# EAGLE library part PCA9698DGG (library i2c-expander-40)
I2C 40 I/O expander
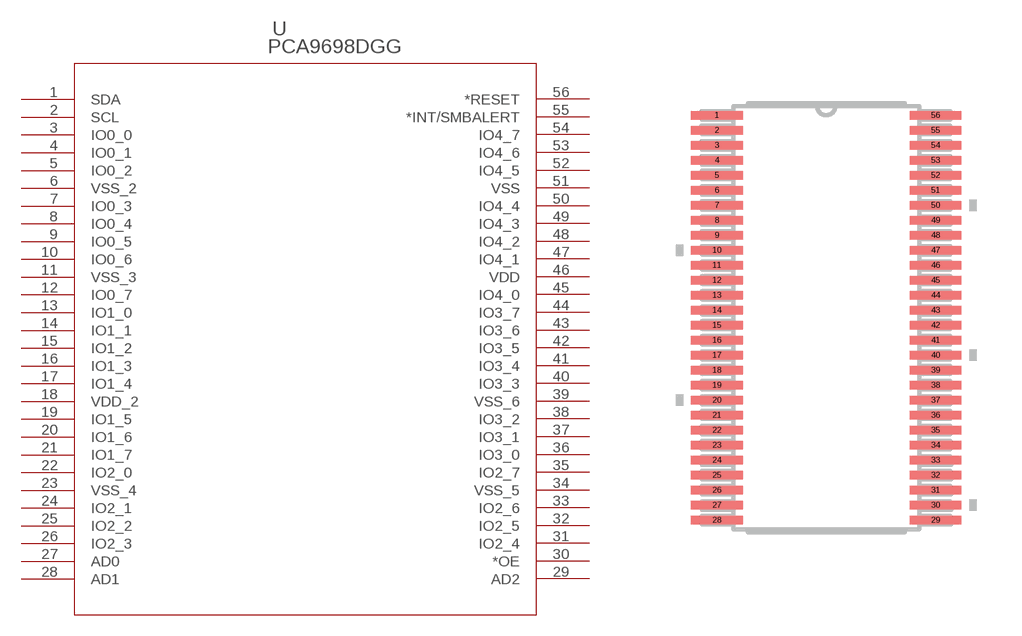
[diagram p2: symbol with the pads of SOT364-1; footprint SOT364-1]

Designator prefix U

## PCA9698DGG (COPYRIGHT: Copyright (C) 2015 Accelerated Designs. All rights reserved; MANUFACTURER_PART_NUMBER: PCA9698DGG; VENDOR: NXP)  [SOT364-1]
1  SDA  pas
2  SCL  pas
3  IO0_0  pas
4  IO0_1  pas
5  IO0_2  pas
6  VSS_2  pas
7  IO0_3  pas
8  IO0_4  pas
9  IO0_5  pas
10  IO0_6  pas
11  VSS_3  pas
12  IO0_7  pas
13  IO1_0  pas
14  IO1_1  pas
15  IO1_2  pas
16  IO1_3  pas
17  IO1_4  pas
18  VDD_2  pas
19  IO1_5  pas
20  IO1_6  pas
21  IO1_7  pas
22  IO2_0  pas
23  VSS_4  pas
24  IO2_1  pas
25  IO2_2  pas
26  IO2_3  pas
27  AD0  pas
28  AD1  pas
29  AD2  pas
30  *OE  pas
31  IO2_4  pas
32  IO2_5  pas
33  IO2_6  pas
34  VSS_5  pas
35  IO2_7  pas
36  IO3_0  pas
37  IO3_1  pas
38  IO3_2  pas
39  VSS_6  pas
40  IO3_3  pas
41  IO3_4  pas
42  IO3_5  pas
43  IO3_6  pas
44  IO3_7  pas
45  IO4_0  pas
46  VDD  pas
47  IO4_1  pas
48  IO4_2  pas
49  IO4_3  pas
50  IO4_4  pas
51  VSS  pas
52  IO4_5  pas
53  IO4_6  pas
54  IO4_7  pas
55  *INT/SMBALERT  pas
56  *RESET  pas

## Footprint SOT364-1 (pad centres in mm)
smd 1.727 x 0.279: 1 -3.645,6.75; 2 -3.645,6.25; 3 -3.645,5.75; 4 -3.645,5.25; 5 -3.645,4.75; 6 -3.645,4.25; 7 -3.645,3.75; 8 -3.645,3.25; 9 -3.645,2.75; 10 -3.645,2.25; 11 -3.645,1.75; 12 -3.645,1.25; 13 -3.645,0.75; 14 -3.645,0.25; 15 -3.645,-0.25; 16 -3.645,-0.75; 17 -3.645,-1.25; 18 -3.645,-1.75; 19 -3.645,-2.25; 20 -3.645,-2.75; 21 -3.645,-3.25; 22 -3.645,-3.75; 23 -3.645,-4.25; 24 -3.645,-4.75; 25 -3.645,-5.25; 26 -3.645,-5.75; 27 -3.645,-6.25; 28 -3.645,-6.75; 29 3.645,-6.75; 30 3.645,-6.25; 31 3.645,-5.75; 32 3.645,-5.25; 33 3.645,-4.75; 34 3.645,-4.25; 35 3.645,-3.75; 36 3.645,-3.25; 37 3.645,-2.75; 38 3.645,-2.25; 39 3.645,-1.75; 40 3.645,-1.25; 41 3.645,-0.75; 42 3.645,-0.25; 43 3.645,0.25; 44 3.645,0.75; 45 3.645,1.25; 46 3.645,1.75; 47 3.645,2.25; 48 3.645,2.75; 49 3.645,3.25; 50 3.645,3.75; 51 3.645,4.25; 52 3.645,4.75; 53 3.645,5.25; 54 3.645,5.75; 55 3.645,6.25; 56 3.645,6.75